# EAGLE library part ADSP-BF609 (library sjg-analog)
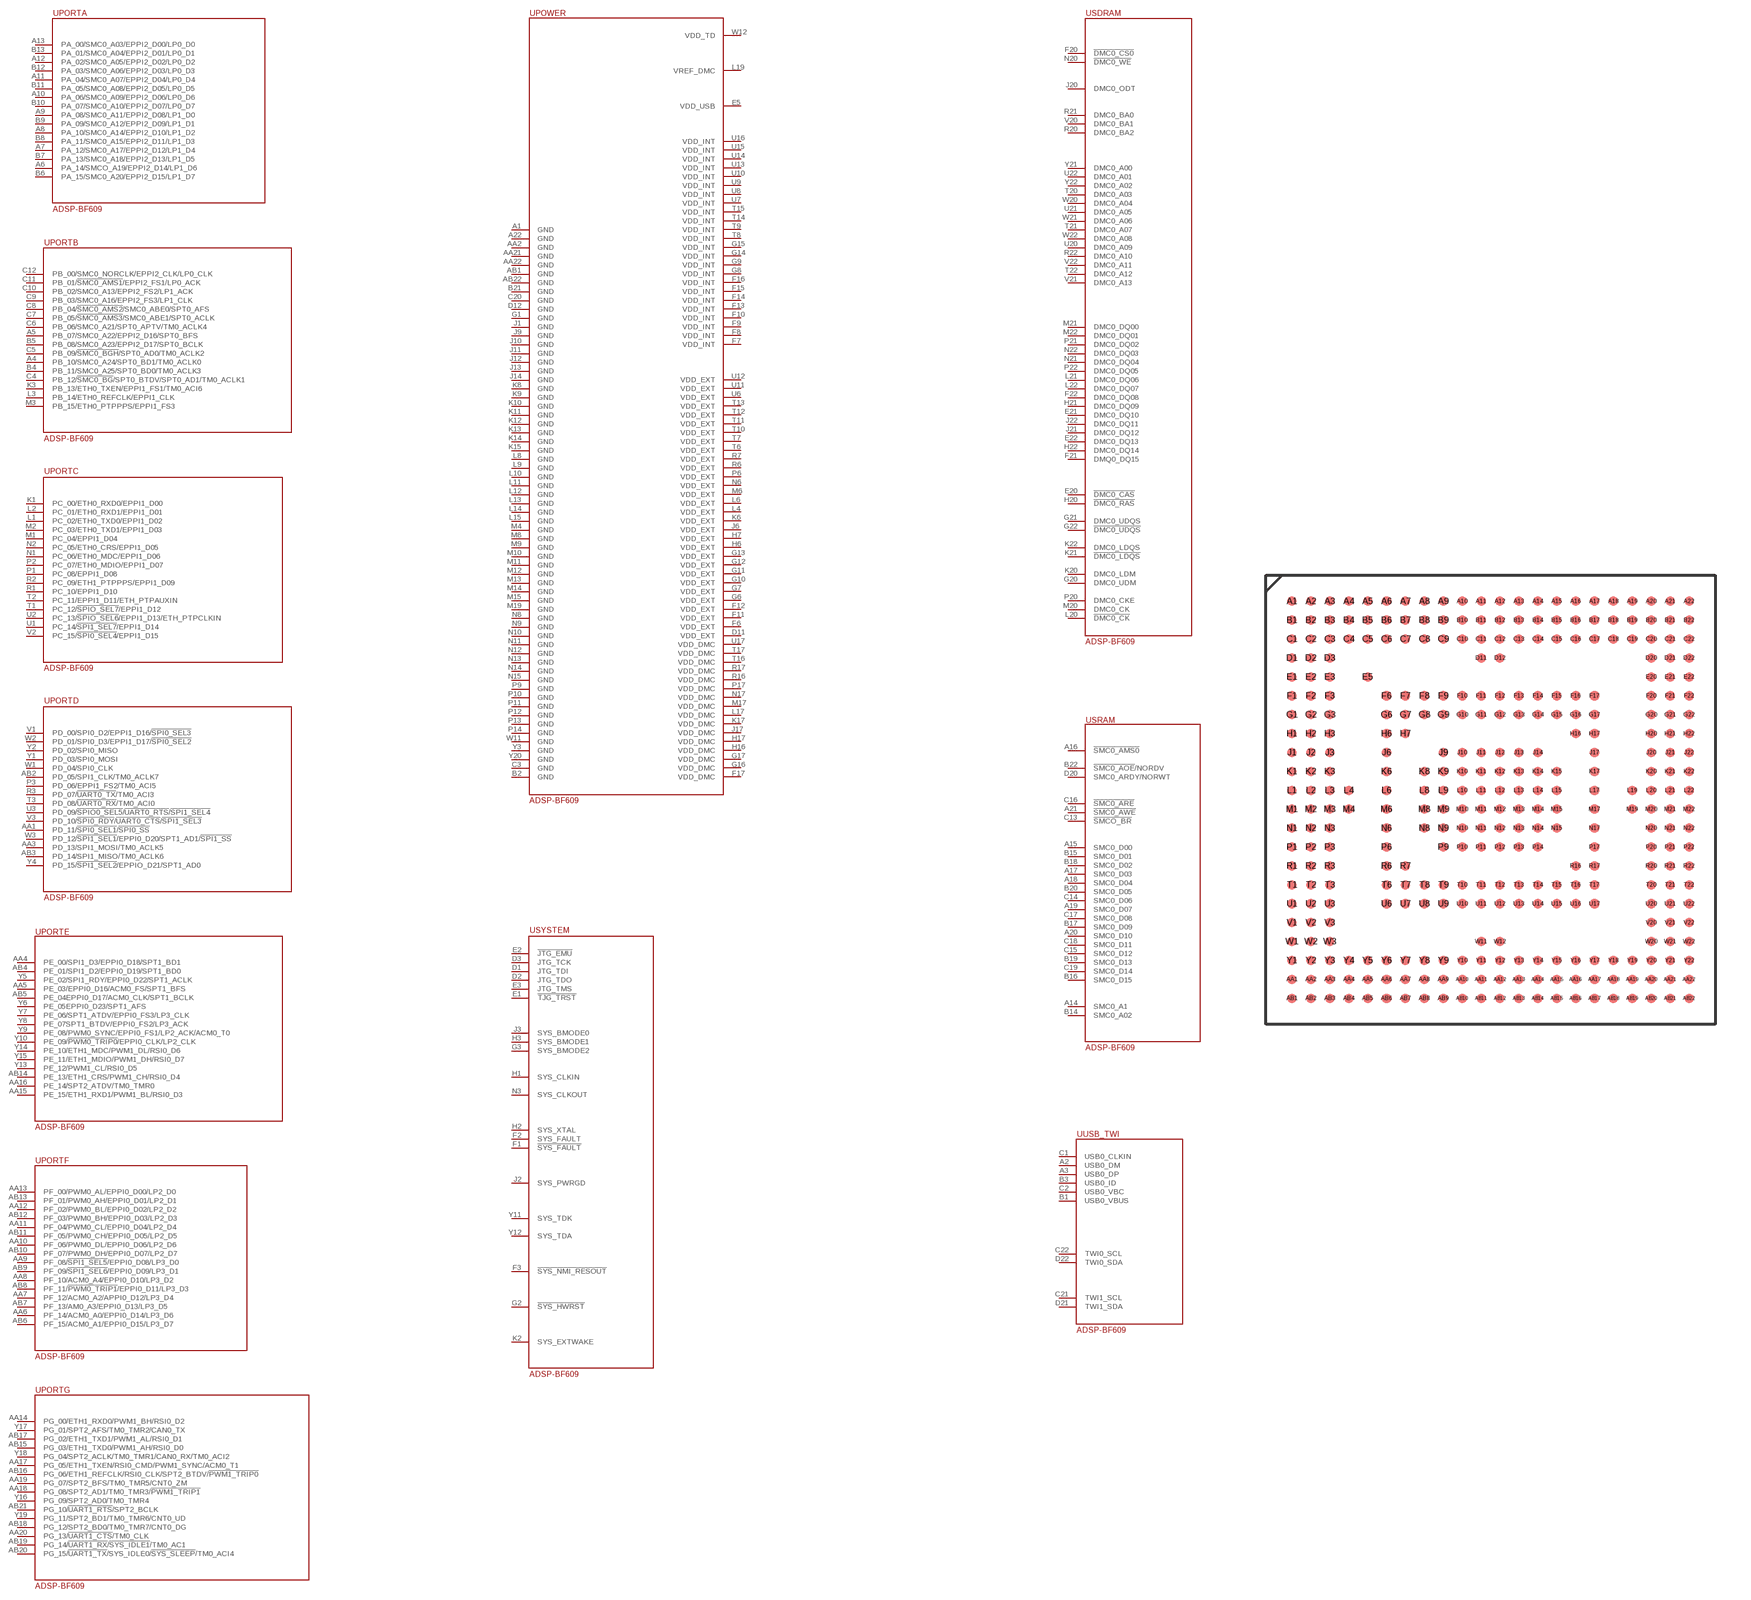
[diagram p0: symbol with the pads of ADSP-BF609; footprint ADSP-BF609]

Designator prefix -; gates PORTA=ADSP-BF609-PORTA PORTB=ADSP-BF609-PORTB PORTC=ADSP-BF609-PORTC PORTD=ADSP-BF609-PORTD PORTE=ADSP-BF609-PORTE PORTF=ADSP-BF609-PORTF PORTG=ADSP-BF609-PORTG POWER=ADSP-BF609-POWER SDRAM=ADSP-BF609-SDRAM SRAM=ADSP-BF609-SMC SYSTEM=ADSP-BF609-SYSTEM USB_TWI=ADSP-BF609-USB-TWI

## ADSP-BF609  [ADSP-BF609]
A1  POWER:GND
A2  USB_TWI:USB0_DM
A3  USB_TWI:USB0_DP
A4  PORTB:PB_10/SMC0_A24/SPT0_BD1/TM0_ACLK0
A5  PORTB:PB_07/SMC0_A22/EPPI2_D16/SPT0_BFS
A6  PORTA:PA_14/SMCO_A19/EPPI2_D14/LP1_D6
A7  PORTA:PA_12/SMC0_A17/EPPI2_D12/LP1_D4
A8  PORTA:PA_10/SMC0_A14/EPPI2_D10/LP1_D2
A9  PORTA:PA_08/SMC0_A11/EPPI2_D08/LP1_D0
A10  PORTA:PA_06/SMC0_A09/EPPI2_D06/LP0_D6
A11  PORTA:PA_04/SMC0_A07/EPPI2_D04/LP0_D4
A12  PORTA:PA_02/SMC0_A05/EPPI2_D02/LP0_D2
A13  PORTA:PA_00/SMC0_A03/EPPI2_D00/LP0_D0
A14  SRAM:SMC0_A1
A15  SRAM:SMC0_D00
A16  SRAM:!SMC0_AMS0!
A17  SRAM:SMC0_D03
A18  SRAM:SMC0_D04
A19  SRAM:SMC0_D07
A20  SRAM:SMC0_D10
A21  SRAM:!SMC0_AWE!
A22  POWER:GND
AA1  PORTD:PD_11/!SPI0_SEL1!/!SPI0_SS!
AA2  POWER:GND
AA3  PORTD:PD_13/SPI1_MOSI/TM0_ACLK5
AA4  PORTE:PE_00/SPI1_D3/EPPI0_D18/SPT1_BD1
AA5  PORTE:PE_03/EPPI0_D16/ACM0_FS/SPT1_BFS
AA6  PORTF:PF_14/ACM0_A0/EPPI0_D14/LP3_D6
AA7  PORTF:PF_12/ACM0_A2/APPI0_D12/LP3_D4
AA8  PORTF:PF_10/ACM0_A4/EPPI0_D10/LP3_D2
AA9  PORTF:PF_08/!SPI1_SEL5!/EPPI0_D08/LP3_D0
AA10  PORTF:PF_06/PWM0_DL/EPPI0_D06/LP2_D6
AA11  PORTF:PF_04/PWM0_CL/EPPI0_D04/LP2_D4
AA12  PORTF:PF_02/PWM0_BL/EPPI0_D02/LP2_D2
AA13  PORTF:PF_00/PWM0_AL/EPPI0_D00/LP2_D0
AA14  PORTG:PG_00/ETH1_RXD0/PWM1_BH/RSI0_D2
AA15  PORTE:PE_15/ETH1_RXD1/PWM1_BL/RSI0_D3
AA16  PORTE:PE_14/SPT2_ATDV/TM0_TMR0
AA17  PORTG:PG_05/ETH1_TXEN/RSI0_CMD/PWM1_SYNC/ACM0_T1
AA18  PORTG:PG_08/SPT2_AD1/TM0_TMR3/!PWM1_TRIP1!
AA19  PORTG:PG_07/SPT2_BFS/TM0_TMR5/CNT0_ZM
AA20  PORTG:PG_13/!UART1_CTS!/TM0_CLK
AA21  POWER:GND
AA22  POWER:GND
AB1  POWER:GND
AB2  PORTD:PD_05/SPI1_CLK/TM0_ACLK7
AB3  PORTD:PD_14/SPI1_MISO/TM0_ACLK6
AB4  PORTE:PE_01/SPI1_D2/EPPI0_D19/SPT1_BD0
AB5  PORTE:PE_04EPPI0_D17/ACM0_CLK/SPT1_BCLK
AB6  PORTF:PF_15/ACM0_A1/EPPI0_D15/LP3_D7
AB7  PORTF:PF_13/AM0_A3/EPPI0_D13/LP3_D5
AB8  PORTF:PF_11/!PWM0_TRIP1!/EPPI0_D11/LP3_D3
AB9  PORTF:PF_09/!SPI1_SEL6!/EPPI0_D09/LP3_D1
AB10  PORTF:PF_07/PWM0_DH/EPPI0_D07/LP2_D7
AB11  PORTF:PF_05/PWM0_CH/EPPI0_D05/LP2_D5
AB12  PORTF:PF_03/PWM0_BH/EPPI0_D03/LP2_D3
AB13  PORTF:PF_01/PWM0_AH/EPPI0_D01/LP2_D1
AB14  PORTE:PE_13/ETH1_CRS/PWM1_CH/RSI0_D4
AB15  PORTG:PG_03/ETH1_TXD0/PWM1_AH/RSI0_D0
AB16  PORTG:PG_06/ETH1_REFCLK/RSI0_CLK/SPT2_BTDV/!PWM1_TRIP0!
AB17  PORTG:PG_02/ETH1_TXD1/PWM1_AL/RSI0_D1
AB18  PORTG:PG_12/SPT2_BD0/TM0_TMR7/CNT0_DG
AB19  PORTG:PG_14/!UART1_RX!/!SYS_IDLE1!/TM0_AC1
AB20  PORTG:PG_15/!UART1_TX!/SYS_IDLE0/!SYS_SLEEP!/TM0_ACI4
AB21  PORTG:PG_10/!UART1_RTS!/SPT2_BCLK
AB22  POWER:GND
B1  USB_TWI:USB0_VBUS
B2  POWER:GND
B3  USB_TWI:USB0_ID
B4  PORTB:PB_11/SMC0_A25/SPT0_BD0/TM0_ACLK3
B5  PORTB:PB_08/SMC0_A23/EPPI2_D17/SPT0_BCLK
B6  PORTA:PA_15/SMC0_A20/EPPI2_D15/LP1_D7
B7  PORTA:PA_13/SMC0_A18/EPPI2_D13/LP1_D5
B8  PORTA:PA_11/SMC0_A15/EPPI2_D11/LP1_D3
B9  PORTA:PA_09/SMC0_A12/EPPI2_D09/LP1_D1
B10  PORTA:PA_07/SMC0_A10/EPPI2_D07/LP0_D7
B11  PORTA:PA_05/SMC0_A08/EPPI2_D05/LP0_D5
B12  PORTA:PA_03/SMC0_A06/EPPI2_D03/LP0_D3
B13  PORTA:PA_01/SMC0_A04/EPPI2_D01/LP0_D1
B14  SRAM:SMC0_A02
B15  SRAM:SMC0_D01
B16  SRAM:SMC0_D15
B17  SRAM:SMC0_D09
B18  SRAM:SMC0_D02
B19  SRAM:SMC0_D13
B20  SRAM:SMC0_D05
B21  POWER:GND
B22  SRAM:!SMC0_AOE!/NORDV
C1  USB_TWI:USB0_CLKIN
C2  USB_TWI:USB0_VBC
C3  POWER:GND
C4  PORTB:PB_12/!SMC0_BG!/SPT0_BTDV/SPT0_AD1/TM0_ACLK1
C5  PORTB:PB_09/!SMC0_BGH!/SPT0_AD0/TM0_ACLK2
C6  PORTB:PB_06/SMC0_A21/SPT0_APTV/TM0_ACLK4
C7  PORTB:PB_05/!SMC0_AMS3!/SMC0_ABE1/SPT0_ACLK
C8  PORTB:PB_04/!SMC0_AMS2!/SMC0_ABE0/SPT0_AFS
C9  PORTB:PB_03/SMC0_A16/EPPI2_FS3/LP1_CLK
C10  PORTB:PB_02/SMC0_A13/EPPI2_FS2/LP1_ACK
C11  PORTB:PB_01/!SMC0_AMS1!/EPPI2_FS1/LP0_ACK
C12  PORTB:PB_00/SMC0_NORCLK/EPPI2_CLK/LP0_CLK
C13  SRAM:!SMCO_BR!
C14  SRAM:SMC0_D06
C15  SRAM:SMC0_D12
C16  SRAM:!SMC0_ARE!
C17  SRAM:SMC0_D08
C18  SRAM:SMC0_D11
C19  SRAM:SMC0_D14
C20  POWER:GND
C21  USB_TWI:TWI1_SCL
C22  USB_TWI:TWI0_SCL
D1  SYSTEM:JTG_TDI
D2  SYSTEM:JTG_TDO
D3  SYSTEM:JTG_TCK
D11  POWER:VDD_EXT
D12  POWER:GND
D20  SRAM:SMC0_ARDY/NORWT
D21  USB_TWI:TWI1_SDA
D22  USB_TWI:TWI0_SDA
E1  SYSTEM:!TJG_TRST!
E2  SYSTEM:!JTG_EMU!
E3  SYSTEM:JTG_TMS
E5  POWER:VDD_USB
E20  SDRAM:!DMC0_CAS!
E21  SDRAM:DMC0_DQ10
E22  SDRAM:DMC0_DQ13
F1  SYSTEM:!SYS_FAULT!
F2  SYSTEM:SYS_FAULT
F3  SYSTEM:!SYS_NMI_RESOUT!
F6  POWER:VDD_EXT
F7  POWER:VDD_INT
F8  POWER:VDD_INT
F9  POWER:VDD_INT
F10  POWER:VDD_INT
F11  POWER:VDD_EXT
F12  POWER:VDD_EXT
F13  POWER:VDD_INT
F14  POWER:VDD_INT
F15  POWER:VDD_INT
F16  POWER:VDD_INT
F17  POWER:VDD_DMC
F20  SDRAM:!DMC0_CS0!
F21  SDRAM:DMQ0_DQ15
F22  SDRAM:DMC0_DQ08
G1  POWER:GND
G2  SYSTEM:!SYS_HWRST!
G3  SYSTEM:SYS_BMODE2
G6  POWER:VDD_EXT
G7  POWER:VDD_EXT
G8  POWER:VDD_INT
G9  POWER:VDD_INT
G10  POWER:VDD_EXT
G11  POWER:VDD_EXT
G12  POWER:VDD_EXT
G13  POWER:VDD_EXT
G14  POWER:VDD_INT
G15  POWER:VDD_INT
G16  POWER:VDD_DMC
G17  POWER:VDD_DMC
G20  SDRAM:DMC0_UDM
G21  SDRAM:DMC0_UDQS
G22  SDRAM:!DMC0_UDQS!
H1  SYSTEM:SYS_CLKIN
H2  SYSTEM:SYS_XTAL
H3  SYSTEM:SYS_BMODE1
H6  POWER:VDD_EXT
H7  POWER:VDD_EXT
H16  POWER:VDD_DMC
H17  POWER:VDD_DMC
H20  SDRAM:!DMC0_RAS!
H21  SDRAM:DMC0_DQ09
H22  SDRAM:DMC0_DQ14
J1  POWER:GND
J2  SYSTEM:SYS_PWRGD
J3  SYSTEM:SYS_BMODE0
J6  POWER:VDD_EXT
J9  POWER:GND
J10  POWER:GND
J11  POWER:GND
J12  POWER:GND
J13  POWER:GND
J14  POWER:GND
J17  POWER:VDD_DMC
J20  SDRAM:DMC0_ODT
J21  SDRAM:DMC0_DQ12
J22  SDRAM:DMC0_DQ11
K1  PORTC:PC_00/ETH0_RXD0/EPPI1_D00
K2  SYSTEM:SYS_EXTWAKE
K3  PORTB:PB_13/ETH0_TXEN/EPPI1_FS1/TM0_ACI6
K6  POWER:VDD_EXT
K8  POWER:GND
K9  POWER:GND
K10  POWER:GND
K11  POWER:GND
K12  POWER:GND
K13  POWER:GND
K14  POWER:GND
K15  POWER:GND
K17  POWER:VDD_DMC
K20  SDRAM:DMC0_LDM
K21  SDRAM:!DMC0_LDQS!
K22  SDRAM:DMC0_LDQS
L1  PORTC:PC_02/ETH0_TXD0/EPPI1_D02
L2  PORTC:PC_01/ETH0_RXD1/EPPI1_D01
L3  PORTB:PB_14/ETH0_REFCLK/EPPI1_CLK
L4  POWER:VDD_EXT
L6  POWER:VDD_EXT
L8  POWER:GND
L9  POWER:GND
L10  POWER:GND
L11  POWER:GND
L12  POWER:GND
L13  POWER:GND
L14  POWER:GND
L15  POWER:GND
L17  POWER:VDD_DMC
L19  POWER:VREF_DMC
L20  SDRAM:!DMC0_CK!
L21  SDRAM:DMC0_DQ06
L22  SDRAM:DMC0_DQ07
M1  PORTC:PC_04/EPPI1_D04
M2  PORTC:PC_03/ETH0_TXD1/EPPI1_D03
M3  PORTB:PB_15/ETH0_PTPPPS/EPPI1_FS3
M4  POWER:GND
M6  POWER:VDD_EXT
M8  POWER:GND
M9  POWER:GND
M10  POWER:GND
M11  POWER:GND
M12  POWER:GND
M13  POWER:GND
M14  POWER:GND
M15  POWER:GND
M17  POWER:VDD_DMC
M19  POWER:GND
M20  SDRAM:DMC0_CK
M21  SDRAM:DMC0_DQ00
M22  SDRAM:DMC0_DQ01
N1  PORTC:PC_06/ETH0_MDC/EPPI1_D06
N2  PORTC:PC_05/ETH0_CRS/EPPI1_D05
N3  SYSTEM:SYS_CLKOUT
N6  POWER:VDD_EXT
N8  POWER:GND
N9  POWER:GND
N10  POWER:GND
N11  POWER:GND
N12  POWER:GND
N13  POWER:GND
N14  POWER:GND
N15  POWER:GND
N17  POWER:VDD_DMC
N20  SDRAM:!DMC0_WE!
N21  SDRAM:DMC0_DQ04
N22  SDRAM:DMC0_DQ03
P1  PORTC:PC_08/EPPI1_D08
P2  PORTC:PC_07/ETH0_MDIO/EPPI1_D07
P3  PORTD:PD_06/EPPI1_FS2/TM0_ACI5
P6  POWER:VDD_EXT
P9  POWER:GND
P10  POWER:GND
P11  POWER:GND
P12  POWER:GND
P13  POWER:GND
P14  POWER:GND
P17  POWER:VDD_DMC
P20  SDRAM:DMC0_CKE
P21  SDRAM:DMC0_DQ02
P22  SDRAM:DMC0_DQ05
R1  PORTC:PC_10/EPPI1_D10
R2  PORTC:PC_09/ETH1_PTPPPS/EPPI1_D09
R3  PORTD:PD_07/!UART0_TX!/TM0_ACI3
R6  POWER:VDD_EXT
R7  POWER:VDD_EXT
R16  POWER:VDD_DMC
R17  POWER:VDD_DMC
R20  SDRAM:DMC0_BA2
R21  SDRAM:DMC0_BA0
R22  SDRAM:DMC0_A10
T1  PORTC:PC_12/!SPIO_SEL7!/EPPI1_D12
T2  PORTC:PC_11/EPPI1_D11/ETH_PTPAUXIN
T3  PORTD:PD_08/!UART0_RX!/TM0_ACI0
T6  POWER:VDD_EXT
T7  POWER:VDD_EXT
T8  POWER:VDD_INT
T9  POWER:VDD_INT
T10  POWER:VDD_EXT
T11  POWER:VDD_EXT
T12  POWER:VDD_EXT
T13  POWER:VDD_EXT
T14  POWER:VDD_INT
T15  POWER:VDD_INT
T16  POWER:VDD_DMC
T17  POWER:VDD_DMC
T20  SDRAM:DMC0_A03
T21  SDRAM:DMC0_A07
T22  SDRAM:DMC0_A12
U1  PORTC:PC_14/!SPI1_SEL7!/EPPI1_D14
U2  PORTC:PC_13/!SPIO_SEL6!/EPPI1_D13/ETH_PTPCLKIN
U3  PORTD:PD_09/!SPIO0_SEL5!/!UART0_RTS!/!SPI1_SEL4!
U6  POWER:VDD_EXT
U7  POWER:VDD_INT
U8  POWER:VDD_INT
U9  POWER:VDD_INT
U10  POWER:VDD_INT
U11  POWER:VDD_EXT
U12  POWER:VDD_EXT
U13  POWER:VDD_INT
U14  POWER:VDD_INT
U15  POWER:VDD_INT
U16  POWER:VDD_INT
U17  POWER:VDD_DMC
U20  SDRAM:DMC0_A09
U21  SDRAM:DMC0_A05
U22  SDRAM:DMC0_A01
V1  PORTD:PD_00/SPI0_D2/EPPI1_D16/!SPI0_SEL3!
V2  PORTC:PC_15/!SPI0_SEL4!/EPPI1_D15
V3  PORTD:PD_10/!SPI0_RDY!/!UART0_CTS!/!SPI1_SEL3!
V20  SDRAM:DMC0_BA1
V21  SDRAM:DMC0_A13
V22  SDRAM:DMC0_A11
W1  PORTD:PD_04/SPI0_CLK
W2  PORTD:PD_01/SPI0_D3/EPPI1_D17/!SPI0_SEL2!
W3  PORTD:PD_12/!SPI1_SEL1!/EPPI0_D20/SPT1_AD1/!SPI1_SS!
W11  POWER:GND
W12  POWER:VDD_TD
W20  SDRAM:DMC0_A04
W21  SDRAM:DMC0_A06
W22  SDRAM:DMC0_A08
Y1  PORTD:PD_03/SPI0_MOSI
Y2  PORTD:PD_02/SPI0_MISO
Y3  POWER:GND
Y4  PORTD:PD_15/!SPI1_SEL2!/EPPIO_D21/SPT1_AD0
Y5  PORTE:PE_02/SPI1_RDY/EPPI0_D22/SPT1_ACLK
Y6  PORTE:PE_05EPPI0_D23/SPT1_AFS
Y7  PORTE:PE_06/SPT1_ATDV/EPPI0_FS3/LP3_CLK
Y8  PORTE:PE_07SPT1_BTDV/EPPI0_FS2/LP3_ACK
Y9  PORTE:PE_08/PWM0_SYNC/EPPI0_FS1/LP2_ACK/ACM0_T0
Y10  PORTE:PE_09/!PWM0_TRIP0!/EPPI0_CLK/LP2_CLK
Y11  SYSTEM:SYS_TDK
Y12  SYSTEM:SYS_TDA
Y13  PORTE:PE_12/PWM1_CL/RSI0_D5
Y14  PORTE:PE_10/ETH1_MDC/PWM1_DL/RSI0_D6
Y15  PORTE:PE_11/ETH1_MDIO/PWM1_DH/RSI0_D7
Y16  PORTG:PG_09/SPT2_AD0/TM0_TMR4
Y17  PORTG:PG_01/SPT2_AFS/TM0_TMR2/CAN0_TX
Y18  PORTG:PG_04/SPT2_ACLK/TM0_TMR1/CAN0_RX/TM0_ACI2
Y19  PORTG:PG_11/SPT2_BD1/TM0_TMR6/CNT0_UD
Y20  POWER:GND
Y21  SDRAM:DMC0_A00
Y22  SDRAM:DMC0_A02

## Footprint ADSP-BF609 (pad centres in mm)
smd 0.4 x 0.4: A1 -8.4,8.4; A2 -7.6,8.4; A3 -6.8,8.4; A4 -6,8.4; A5 -5.2,8.4; A6 -4.4,8.4; A7 -3.6,8.4; A8 -2.8,8.4; A9 -2,8.4; A10 -1.2,8.4; A11 -0.4,8.4; A12 0.4,8.4; A13 1.2,8.4; A14 2,8.4; A15 2.8,8.4; A16 3.6,8.4; A17 4.4,8.4; A18 5.2,8.4; A19 6,8.4; A20 6.8,8.4; A21 7.6,8.4; A22 8.4,8.4; AA1 -8.4,-7.6; AA2 -7.6,-7.6; AA3 -6.8,-7.6; AA4 -6,-7.6; AA5 -5.2,-7.6; AA6 -4.4,-7.6; AA7 -3.6,-7.6; AA8 -2.8,-7.6; AA9 -2,-7.6; AA10 -1.2,-7.6; AA11 -0.4,-7.6; AA12 0.4,-7.6; AA13 1.2,-7.6; AA14 2,-7.6; AA15 2.8,-7.6; AA16 3.6,-7.6; AA17 4.4,-7.6; AA18 5.2,-7.6; AA19 6,-7.6; AA20 6.8,-7.6; AA21 7.6,-7.6; AA22 8.4,-7.6; AB1 -8.4,-8.4; AB2 -7.6,-8.4; AB3 -6.8,-8.4; AB4 -6,-8.4; AB5 -5.2,-8.4; AB6 -4.4,-8.4; AB7 -3.6,-8.4; AB8 -2.8,-8.4; AB9 -2,-8.4; AB10 -1.2,-8.4; AB11 -0.4,-8.4; AB12 0.4,-8.4; AB13 1.2,-8.4; AB14 2,-8.4; AB15 2.8,-8.4; AB16 3.6,-8.4; AB17 4.4,-8.4; AB18 5.2,-8.4; AB19 6,-8.4; AB20 6.8,-8.4; AB21 7.6,-8.4; AB22 8.4,-8.4; B1 -8.4,7.6; B2 -7.6,7.6; B3 -6.8,7.6; B4 -6,7.6; B5 -5.2,7.6; B6 -4.4,7.6; B7 -3.6,7.6; B8 -2.8,7.6; B9 -2,7.6; B10 -1.2,7.6; B11 -0.4,7.6; B12 0.4,7.6; B13 1.2,7.6; B14 2,7.6; B15 2.8,7.6; B16 3.6,7.6; B17 4.4,7.6; B18 5.2,7.6; B19 6,7.6; B20 6.8,7.6; B21 7.6,7.6; B22 8.4,7.6; C1 -8.4,6.8; C2 -7.6,6.8; C3 -6.8,6.8; C4 -6,6.8; C5 -5.2,6.8; C6 -4.4,6.8; C7 -3.6,6.8; C8 -2.8,6.8; C9 -2,6.8; C10 -1.2,6.8; C11 -0.4,6.8; C12 0.4,6.8; C13 1.2,6.8; C14 2,6.8; C15 2.8,6.8; C16 3.6,6.8; C17 4.4,6.8; C18 5.2,6.8; C19 6,6.8; C20 6.8,6.8; C21 7.6,6.8; C22 8.4,6.8; D1 -8.4,6; D2 -7.6,6; D3 -6.8,6; D11 -0.4,6; D12 0.4,6; D20 6.8,6; D21 7.6,6; D22 8.4,6; E1 -8.4,5.2; E2 -7.6,5.2; E3 -6.8,5.2; E5 -5.2,5.2; E20 6.8,5.2; E21 7.6,5.2; E22 8.4,5.2; F1 -8.4,4.4; F2 -7.6,4.4; F3 -6.8,4.4; F6 -4.4,4.4; F7 -3.6,4.4; F8 -2.8,4.4; F9 -2,4.4; F10 -1.2,4.4; F11 -0.4,4.4; F12 0.4,4.4; F13 1.2,4.4; F14 2,4.4; F15 2.8,4.4; F16 3.6,4.4; F17 4.4,4.4; F20 6.8,4.4; F21 7.6,4.4; F22 8.4,4.4; G1 -8.4,3.6; G2 -7.6,3.6; G3 -6.8,3.6; G6 -4.4,3.6; G7 -3.6,3.6; G8 -2.8,3.6; G9 -2,3.6; G10 -1.2,3.6; G11 -0.4,3.6; G12 0.4,3.6; G13 1.2,3.6; G14 2,3.6; G15 2.8,3.6; G16 3.6,3.6; G17 4.4,3.6; G20 6.8,3.6; G21 7.6,3.6; G22 8.4,3.6; H1 -8.4,2.8; H2 -7.6,2.8; H3 -6.8,2.8; H6 -4.4,2.8; H7 -3.6,2.8; H16 3.6,2.8; H17 4.4,2.8; H20 6.8,2.8; H21 7.6,2.8; H22 8.4,2.8; J1 -8.4,2; J2 -7.6,2; J3 -6.8,2; J6 -4.4,2; J9 -2,2; J10 -1.2,2; J11 -0.4,2; J12 0.4,2; J13 1.2,2; J14 2,2; J17 4.4,2; J20 6.8,2; J21 7.6,2; J22 8.4,2; K1 -8.4,1.2; K2 -7.6,1.2; K3 -6.8,1.2; K6 -4.4,1.2; K8 -2.8,1.2; K9 -2,1.2; K10 -1.2,1.2; K11 -0.4,1.2; K12 0.4,1.2; K13 1.2,1.2; K14 2,1.2; K15 2.8,1.2; K17 4.4,1.2; K20 6.8,1.2; K21 7.6,1.2; K22 8.4,1.2; L1 -8.4,0.4; L2 -7.6,0.4; L3 -6.8,0.4; L4 -6,0.4; L6 -4.4,0.4; L8 -2.8,0.4; L9 -2,0.4; L10 -1.2,0.4; L11 -0.4,0.4; L12 0.4,0.4; L13 1.2,0.4; L14 2,0.4; L15 2.8,0.4; L17 4.4,0.4; L19 6,0.4; L20 6.8,0.4; L21 7.6,0.4; L22 8.4,0.4; M1 -8.4,-0.4; M2 -7.6,-0.4; M3 -6.8,-0.4; M4 -6,-0.4; M6 -4.4,-0.4; M8 -2.8,-0.4; M9 -2,-0.4; M10 -1.2,-0.4; M11 -0.4,-0.4; M12 0.4,-0.4; M13 1.2,-0.4; M14 2,-0.4; M15 2.8,-0.4; M17 4.4,-0.4; M19 6,-0.4; M20 6.8,-0.4; M21 7.6,-0.4; M22 8.4,-0.4; N1 -8.4,-1.2; N2 -7.6,-1.2; N3 -6.8,-1.2; N6 -4.4,-1.2; N8 -2.8,-1.2; N9 -2,-1.2; N10 -1.2,-1.2; N11 -0.4,-1.2; N12 0.4,-1.2; N13 1.2,-1.2; N14 2,-1.2; N15 2.8,-1.2; N17 4.4,-1.2; N20 6.8,-1.2; N21 7.6,-1.2; N22 8.4,-1.2; P1 -8.4,-2; P2 -7.6,-2; P3 -6.8,-2; P6 -4.4,-2; P9 -2,-2; P10 -1.2,-2; P11 -0.4,-2; P12 0.4,-2; P13 1.2,-2; P14 2,-2; P17 4.4,-2; P20 6.8,-2; P21 7.6,-2; P22 8.4,-2; R1 -8.4,-2.8; R2 -7.6,-2.8; R3 -6.8,-2.8; R6 -4.4,-2.8; R7 -3.6,-2.8; R16 3.6,-2.8; R17 4.4,-2.8; R20 6.8,-2.8; R21 7.6,-2.8; R22 8.4,-2.8; T1 -8.4,-3.6; T2 -7.6,-3.6; T3 -6.8,-3.6; T6 -4.4,-3.6; T7 -3.6,-3.6; T8 -2.8,-3.6; T9 -2,-3.6; T10 -1.2,-3.6; T11 -0.4,-3.6; T12 0.4,-3.6; T13 1.2,-3.6; T14 2,-3.6; T15 2.8,-3.6; T16 3.6,-3.6; T17 4.4,-3.6; T20 6.8,-3.6; T21 7.6,-3.6; T22 8.4,-3.6; U1 -8.4,-4.4; U2 -7.6,-4.4; U3 -6.8,-4.4; U6 -4.4,-4.4; U7 -3.6,-4.4; U8 -2.8,-4.4; U9 -2,-4.4; U10 -1.2,-4.4; U11 -0.4,-4.4; U12 0.4,-4.4; U13 1.2,-4.4; U14 2,-4.4; U15 2.8,-4.4; U16 3.6,-4.4; U17 4.4,-4.4; U20 6.8,-4.4; U21 7.6,-4.4; U22 8.4,-4.4; V1 -8.4,-5.2; V2 -7.6,-5.2; V3 -6.8,-5.2; V20 6.8,-5.2; V21 7.6,-5.2; V22 8.4,-5.2; W1 -8.4,-6; W2 -7.6,-6; W3 -6.8,-6; W11 -0.4,-6; W12 0.4,-6; W20 6.8,-6; W21 7.6,-6; W22 8.4,-6; Y1 -8.4,-6.8; Y2 -7.6,-6.8; Y3 -6.8,-6.8; Y4 -6,-6.8; Y5 -5.2,-6.8; Y6 -4.4,-6.8; Y7 -3.6,-6.8; Y8 -2.8,-6.8; Y9 -2,-6.8; Y10 -1.2,-6.8; Y11 -0.4,-6.8; Y12 0.4,-6.8; Y13 1.2,-6.8; Y14 2,-6.8; Y15 2.8,-6.8; Y16 3.6,-6.8; Y17 4.4,-6.8; Y18 5.2,-6.8; Y19 6,-6.8; Y20 6.8,-6.8; Y21 7.6,-6.8; Y22 8.4,-6.8